# Altium footprint library ProtoStack_H750VBT.PcbLib: 87 footprints (part 3 of 6)
Each footprint in its own frame and in the unit in brackets; x right, y up, seen from the top. Pads: shape width x height; smd on the part's side, far side on the other; paste and mask are expansions set on the pad; w line width, h text height; cw(c..) or ccw(c..) is an arc to the next point about the centre after c.
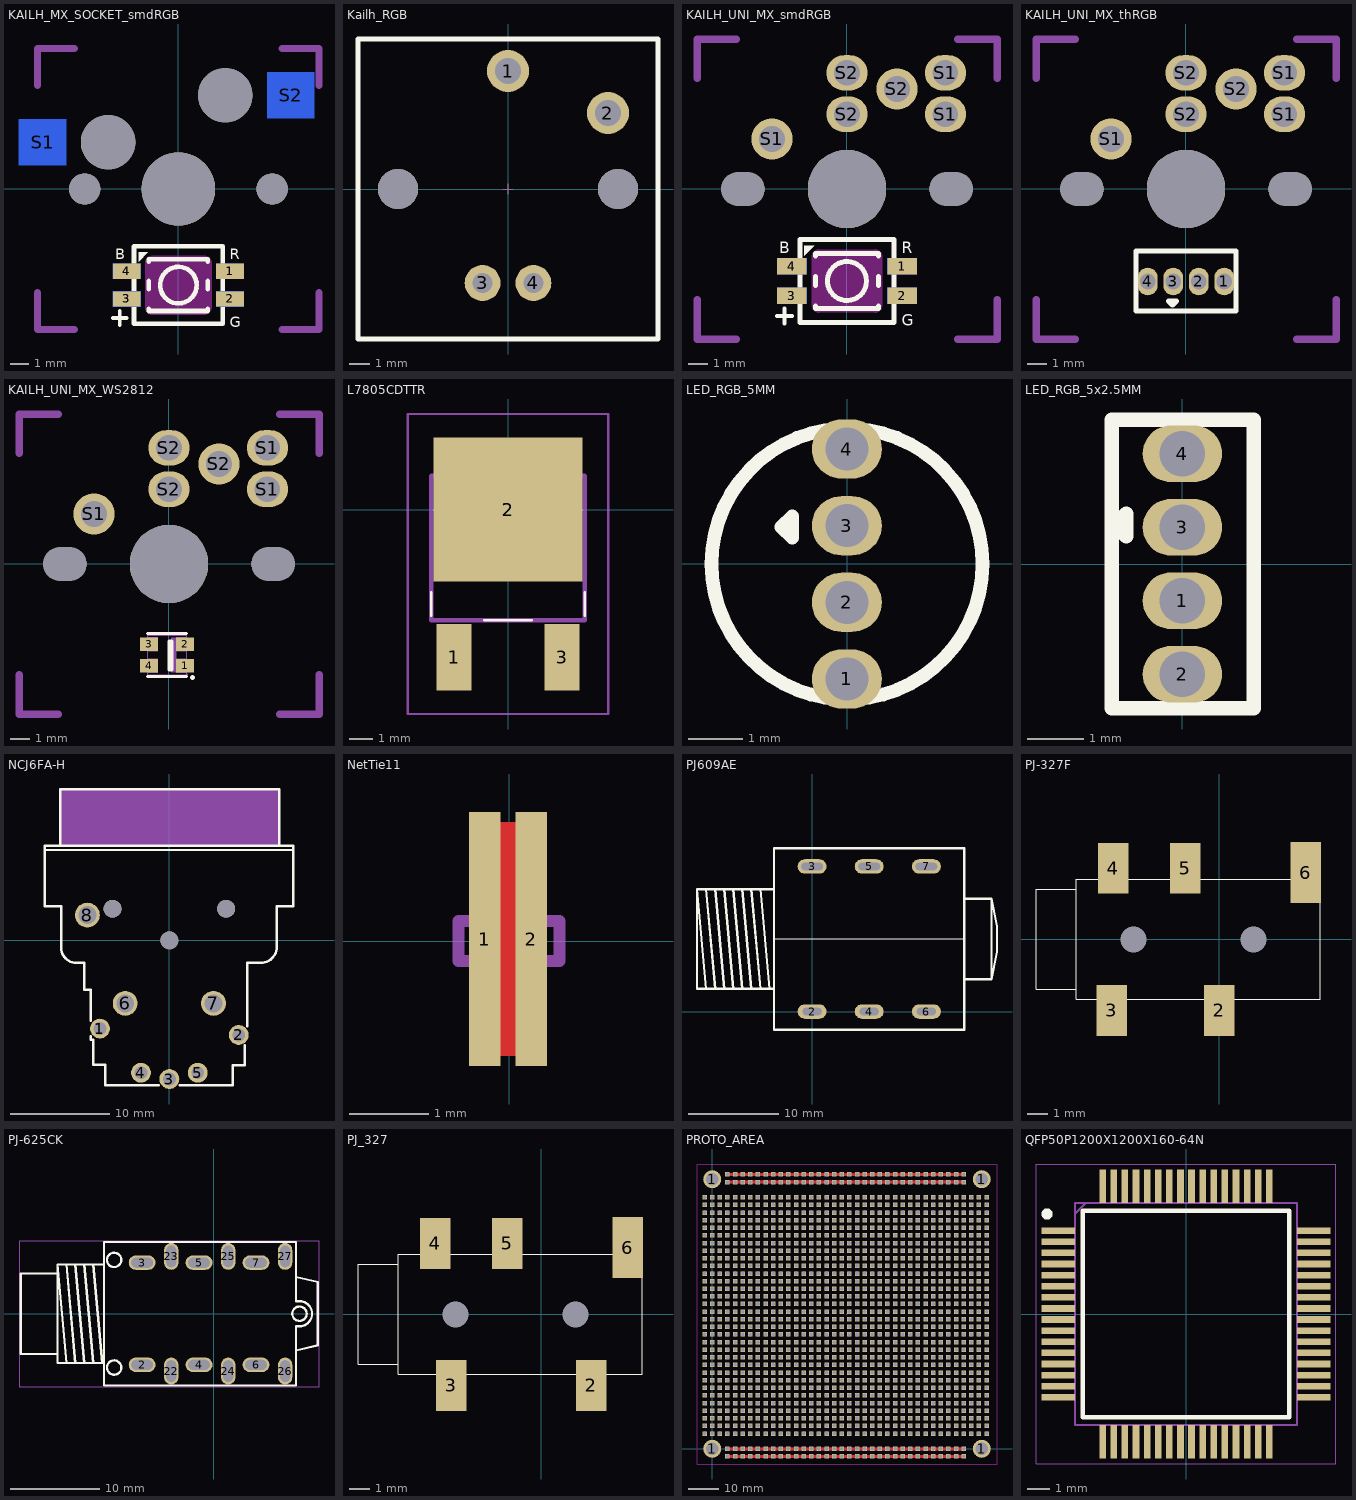
[diagram p2: the footprints below, top view; thin cyan lines are the x and y axes]

## KAILH_MX_SOCKET_smdRGB [mm]
pads (15):
  rect 1.5x0.82 smd far side paste+0 mask+0.051: 1(2.8,-4.457) 2(2.8,-5.957) 3(-2.8,-5.957) 4(-2.8,-4.457)
  rect 1.5x0.82 smd paste+0 mask+0.051: 1(2.8,-4.457) 2(2.8,-5.957) 3(-2.8,-5.957) 4(-2.8,-4.457)
  rect 2.55x2.5 smd far side paste+0 mask+0.102: S1(-7.36,2.54) S2(6.09,5.08)
  round 1.7 hole 1.7 unplated paste-2539.97: ""(-5.08,0) ""(5.08,0)
  round 2.95 hole 2.95 unplated paste-2539.97: ""(-3.81,2.54) ""(2.54,5.08)
  round 3.98 hole 3.98 unplated paste-2539.97: ""(0,0)
Top Overlay:
  circle w0.254: c0,-5.207 r0.992
  region: -2.159,-3.429 -1.651,-3.429 -2.159,-3.937
  lines w0.203: -3.556,-6.985 -2.794,-6.985 ; -3.175,-7.366 -3.175,-6.604
  lines w0.254: -1.6,-6.48 -1.6,-6.607 1.6,-6.607 1.6,-6.48 ; -1.6,-5.434 -1.6,-4.98 ; -1.6,-3.934 -1.6,-3.807 1.6,-3.807 1.6,-3.934 ; 1.6,-5.434 1.6,-4.98 ; -2.4,-7.308 2.4,-7.308 2.4,-3.108 -2.4,-3.108 -2.4,-7.308
  text "B" at -3.429,-3.81 h0.58
  text "G" at 2.794,-7.493 h0.58
  text "R" at 2.794,-3.81 h0.58
Bottom Overlay:
  region: -2.159,-3.429 -2.159,-3.937 -1.651,-3.429
  lines w0.15: 4.865,6.75 4.865,2.54 -0.865,2.54 ccw(c-0.865,0.865) -2.54,0.865 -6.135,0.865 -6.135,5.08 cw(c-4.46,5.08) -4.46,6.755 4.865,6.755
  lines w0.203: -3.556,-6.985 -2.794,-6.985 ; -3.175,-7.366 -3.175,-6.604
  lines w0.254: -2.4,-7.308 2.4,-7.308 2.4,-3.108 -2.4,-3.108 -2.4,-7.308
  text "B" at -2.794,-3.81 h0.58
  text "G" at -2.794,-3.81 h0.58
  text "R" at 3.429,-3.81 h0.58
Keep-Out Layer:
  board cut-out: 1.8,-6.407 1.8,-6.487 1.739,-6.634 1.627,-6.746 1.48,-6.807 1.4,-6.807 -1.4,-6.807 -1.401,-6.807 -1.402,-6.807 -1.404,-6.807 -1.406,-6.807 -1.485,-6.806 -1.63,-6.744 -1.74,-6.632 -1.8,-6.486 -1.8,-6.407 -1.8,-4.007 -1.8,-3.927 -1.739,-3.78 -1.627,-3.668 -1.48,-3.607 -1.4,-3.607 1.4,-3.607 1.48,-3.607 1.627,-3.668 1.739,-3.78 1.8,-3.927 1.8,-4.007
  board cut-out: -1.8,-6.407 -1.8,-6.487 -1.739,-6.634 -1.627,-6.746 -1.48,-6.807 -1.4,-6.807 1.4,-6.807 1.401,-6.807 1.402,-6.807 1.404,-6.807 1.406,-6.807 1.485,-6.806 1.63,-6.744 1.74,-6.632 1.8,-6.486 1.8,-6.407 1.8,-4.007 1.8,-3.927 1.739,-3.78 1.627,-3.668 1.48,-3.607 1.4,-3.607 -1.4,-3.607 -1.48,-3.607 -1.627,-3.668 -1.739,-3.78 -1.8,-3.927 -1.8,-4.007
Mechanical 15:
  lines w0.381: -7.62,-5.62 -7.62,-7.62 -5.62,-7.62 ; -7.62,5.62 -7.62,7.62 -5.62,7.62 ; 5.62,-7.62 7.62,-7.62 7.62,-5.62 ; 5.62,7.62 7.62,7.62 7.62,5.62
3D body "Kailh Hotswap MX v22.step": height 0.22, standoff -3, extent -7.895,0.749 6.625,6.699
3D body "asm_mx_asm_PLATE.stp": height 15.49, standoff -3.11, extent -7.79,-7.79 7.81,7.81
3D body "LED-3528-rgb.step": height 0.4, standoff -1.5, extent -1.75,-6.604 1.75,-3.804

## Kailh_RGB [mm]
pads (6):
  round 2.1 hole 1.3: 1(0,5.9) 2(5,3.8)
  round 1.8 hole 1: 3(-1.27,-4.699) 4(1.27,-4.699)
  round 2 hole 2 unplated: ""(-5.5,0) ""(5.5,0)
Top Overlay:
  lines w0.254: -7.5,-7.5 -7.5,7.5 7.5,7.5 7.5,-7.5 -7.5,-7.5
Mechanical 1:
  lines w0.051: -0.254,0 0,0 ; 0,-0.254 0,0 ; 0,0.254 0,0 ; 0.254,0 0,0
3D body "Kailh Choc Low Profile Switch.step": height 8, standoff -3, extent -7.5,-7.5 7.5,7.5

## KAILH_UNI_MX_smdRGB [mm] "Universal footprint for low-profile and regular switches, direct solder. Kailh RGB Black also supported without led"
pads (17):
  rect 1.5x0.82 smd far side paste+0 mask+0.051: 1(2.8,-3.924) 2(2.8,-5.424) 3(-2.8,-5.424) 4(-2.8,-3.924)
  rect 1.5x0.82 smd paste+0 mask+0.051: 1(2.8,-3.924) 2(2.8,-5.424) 3(-2.8,-5.424) 4(-2.8,-3.924)
  round 2.1 hole 1.3: S1(-3.81,2.54) S2(2.54,5.08)
  oval 2.1x1.8 hole 1.3: S1(5,3.8) S1(5,5.9) S2(0,3.8) S2(0,5.9)
  oval 2.2x1.7 hole 1.7 slot 2.2 at 0 deg unplated paste-2539.97: ""(-5.29,0) ""(5.29,0)
  round 3.98 hole 3.98 unplated paste-2539.97: ""(0,0)
Top Overlay:
  circle w0.254: c0,-4.674 r0.992
  region: -2.159,-2.896 -1.651,-2.896 -2.159,-3.404
  lines w0.203: -3.556,-6.452 -2.794,-6.452 ; -3.175,-6.833 -3.175,-6.071
  lines w0.254: -1.6,-5.947 -1.6,-6.074 1.6,-6.074 1.6,-5.947 ; -1.6,-4.9 -1.6,-4.447 ; -1.6,-3.4 -1.6,-3.274 1.6,-3.274 1.6,-3.4 ; 1.6,-4.9 1.6,-4.447 ; -2.4,-6.774 2.4,-6.774 2.4,-2.575 -2.4,-2.575 -2.4,-6.774
  text "B" at -3.429,-3.277 h0.58
  text "G" at 2.794,-6.96 h0.58
  text "R" at 2.794,-3.277 h0.58
Bottom Overlay:
  region: -2.159,-2.896 -2.159,-3.404 -1.651,-2.896
  lines w0.203: -3.556,-6.452 -2.794,-6.452 ; -3.175,-6.833 -3.175,-6.071
  lines w0.254: -2.4,-6.774 2.4,-6.774 2.4,-2.575 -2.4,-2.575 -2.4,-6.774
  text "B" at -2.794,-3.277 h0.58
  text "G" at -2.794,-3.277 h0.58
  text "R" at 3.429,-3.277 h0.58
Keep-Out Layer:
  board cut-out: 1.8,-5.874 1.8,-5.953 1.739,-6.1 1.627,-6.213 1.48,-6.274 1.4,-6.274 -1.4,-6.274 -1.401,-6.274 -1.402,-6.274 -1.404,-6.274 -1.406,-6.274 -1.485,-6.273 -1.63,-6.211 -1.74,-6.098 -1.8,-5.953 -1.8,-5.874 -1.8,-3.474 -1.8,-3.394 -1.739,-3.247 -1.627,-3.134 -1.48,-3.074 -1.4,-3.074 1.4,-3.074 1.4,-3.073 1.48,-3.073 1.627,-3.134 1.739,-3.247 1.8,-3.394 1.8,-3.473
  board cut-out: -1.8,-5.874 -1.8,-5.953 -1.739,-6.1 -1.627,-6.213 -1.48,-6.274 -1.4,-6.274 1.4,-6.274 1.401,-6.274 1.402,-6.274 1.404,-6.274 1.406,-6.274 1.485,-6.273 1.63,-6.211 1.74,-6.098 1.8,-5.953 1.8,-5.874 1.8,-3.474 1.8,-3.394 1.739,-3.247 1.627,-3.134 1.48,-3.074 1.4,-3.074 -1.4,-3.074 -1.4,-3.073 -1.48,-3.073 -1.627,-3.134 -1.739,-3.247 -1.8,-3.394 -1.8,-3.473
Mechanical 15:
  lines w0.381: -7.62,-5.62 -7.62,-7.62 -5.62,-7.62 ; -7.62,5.62 -7.62,7.62 -5.62,7.62 ; 5.62,-7.62 7.62,-7.62 7.62,-5.62 ; 5.62,7.62 7.62,7.62 7.62,5.62
3D body "LED-3528-rgb.step": height 0.4, standoff -1.5, extent -1.75,-6.071 1.75,-3.271
3D body "Kailh LP Choc Burnt Orange.STEP": height 8.2, standoff -2.9, extent -7.5,-7.5 7.5,7.5

## KAILH_UNI_MX_thRGB [mm] "Universal footprint for LP-pinout and regular switches, direct solder. LP switches willnot fit with square LED Kailh RGB Black also supported without led"
pads (13):
  oval 1x1.4 hole 0.8: 1(1.943,-4.699) 2(0.648,-4.699) 3(-0.648,-4.699) 4(-1.943,-4.699)
  round 2.1 hole 1.3: S1(-3.81,2.54) S2(2.54,5.08)
  oval 2.1x1.8 hole 1.3: S1(5,3.8) S1(5,5.9) S2(0,3.8) S2(0,5.9)
  oval 2.2x1.7 hole 1.7 slot 2.2 at 0 deg unplated paste-2539.97: ""(-5.29,0) ""(5.29,0)
  round 3.98 hole 3.98 unplated paste-2539.97: ""(0,0)
Top Overlay:
  lines w0.254: -2.54,-6.198 -2.54,-3.15 2.54,-3.15 2.54,-6.198 -2.54,-6.198 ; -0.886,-5.69 -0.686,-5.889 -0.486,-5.69 -0.886,-5.69
Mechanical 15:
  lines w0.381: -7.62,-5.62 -7.62,-7.62 -5.62,-7.62 ; -7.62,5.62 -7.62,7.62 -5.62,7.62 ; 5.62,-7.62 7.62,-7.62 7.62,-5.62 ; 5.62,7.62 7.62,7.62 7.62,5.62
3D body "asm_mx_asm_PLATE.stp": height 15.49, standoff -3.11, extent -7.79,-7.79 7.81,7.81

## KAILH_UNI_MX_WS2812 [mm] "Universal footprint for low-profile and regular switches, direct solder. Kailh RGB Black also supported without led, LED is ws2812 in 2020 package"
pads (13):
  rect 0.9x0.7 smd: 1(0.815,-5.174) 2(0.815,-4.074) 3(-1.015,-4.074) 4(-1.015,-5.174)
  round 2.1 hole 1.3: S1(-3.81,2.54) S2(2.54,5.08)
  oval 2.1x1.8 hole 1.3: S1(5,3.8) S1(5,5.9) S2(0,3.8) S2(0,5.9)
  oval 2.2x1.7 hole 1.7 slot 2.2 at 0 deg unplated paste-2539.97: ""(-5.29,0) ""(5.29,0)
  round 3.98 hole 3.98 unplated paste-2539.97: ""(0,0)
Top Overlay:
  lines w0.152: -1.1,-5.724 0.9,-5.724 ; -1.1,-3.524 0.9,-3.524 ; 0,-5.374 0,-3.974 0,-3.924 0.15,-3.924 0.15,-5.374 0,-5.374
  lines w0.254: 1.2,-5.774 1.2,-5.762
Mechanical 6:
  region: -1.025,-3.874 -1.025,-3.924 -1.075,-3.924 -1.075,-4.224 -1.025,-4.224 -1.025,-4.274 -1.175,-4.274 -1.175,-4.224 -1.125,-4.224 -1.125,-3.924 -1.175,-3.924 -1.175,-3.874
  region: -0.65,-4.274 -0.65,-3.874 -0.8,-3.874 -0.85,-3.874 -0.9,-3.924 -0.9,-4.224 -0.85,-4.274 -0.75,-4.274 -0.75,-4.224 -0.85,-4.224 -0.85,-3.924 -0.7,-3.924 -0.7,-4.274
  region: 1.075,-5.324 1.075,-4.924 0.925,-4.924 0.875,-4.924 0.825,-4.974 0.825,-5.274 0.875,-5.324 0.975,-5.324 0.975,-5.274 0.875,-5.274 0.875,-4.974 1.025,-4.974 1.025,-5.324
  region: 0.7,-5.324 0.75,-5.274 0.75,-4.974 0.7,-4.924 0.5,-4.924 0.45,-4.974 0.45,-5.274 0.5,-5.324 0.6,-5.324 0.6,-5.274 0.5,-5.274 0.5,-4.974 0.7,-4.974 0.7,-5.274 0.65,-5.274 0.65,-5.324
  region: -1.05,-5.374 -1.05,-5.074 -1.2,-5.074 -1.2,-4.974 -1.25,-4.974 -1.25,-5.074 -1.35,-5.074 -1.35,-5.124 -1.25,-5.124 -1.25,-5.274 -1.2,-5.274 -1.2,-5.124 -1.1,-5.124 -1.1,-5.374
  region: 0.125,-5.504 0.125,-3.744 0.375,-3.744 0.375,-5.504
  region: -0.66,-5.224 -0.9,-5.224 -0.9,-5.174 -0.66,-5.174
  region: -0.755,-5.079 -0.755,-5.319 -0.805,-5.319 -0.805,-5.079
  region: 1.08,-3.959 0.84,-3.959 0.84,-3.909 1.08,-3.909
  region: 0.72,-4.244 0.48,-4.244 0.48,-4.064 0.69,-4.064 0.69,-3.954 0.48,-3.954 0.48,-3.904 0.72,-3.904 0.73,-3.904 0.73,-3.914 0.73,-4.104 0.51,-4.104 0.51,-4.204 0.73,-4.204 0.73,-4.244
Mechanical 15:
  region: 0.84,-5.624 0.84,-5.648 0.875,-5.683 0.925,-5.683 0.96,-5.648 0.96,-5.624 0.96,-5.599 0.925,-5.565 0.875,-5.565 0.84,-5.599
  region: 0.9,-4.824 0.9,-5.524 0.375,-5.524 0.375,-4.824
  region: 0.9,-3.724 0.9,-4.424 0.375,-4.424 0.375,-3.724
  region: -0.575,-3.724 -0.575,-4.424 -1.1,-4.424 -1.1,-3.724
  region: -0.575,-4.824 -0.575,-5.524 -1.1,-5.524 -1.1,-4.824
  lines w0.051: -1.1,-5.624 -1.1,-3.624 0.9,-3.624 0.9,-5.624 -1.1,-5.624
  lines w0.381: -7.62,-5.62 -7.62,-7.62 -5.62,-7.62 ; -7.62,5.62 -7.62,7.62 -5.62,7.62 ; 5.62,-7.62 7.62,-7.62 7.62,-5.62 ; 5.62,7.62 7.62,7.62 7.62,5.62
3D body "Kailh LP Choc Burnt Orange.STEP": height 8.2, standoff -2.9, extent -7.5,-7.5 7.5,7.5
3D body "WS2812-2020.STEP": height 0.86, standoff 0, extent -1.207,-5.641 0.993,-3.641

## L7805CDTTR [mm]
pads (3):
  rect 1.5x2.8 smd: 1(-2.286,-6.25) 3(2.286,-6.25)
  rect 6.3x6.1 smd: 2(0,0)
Top Overlay:
  lines w0.1: -3.25,-4.5 -3.25,-3.5 ; -1,-4.676 1,-4.676 ; 3.25,-4.5 3.25,-3.5
Mechanical 13:
  lines w0.2: -3.25,-4.676 3.25,-4.676 3.25,1.424 -3.25,1.424 -3.25,-4.676
Mechanical 15:
  lines w0.1: -4.25,-8.65 4.25,-8.65 4.25,4.05 -4.25,4.05 -4.25,-8.65
3D body "L7805CDT-TR.stp": height 2.63, standoff 0.01, extent -3.3,-7.383 3.3,2.78

## LED_RGB_5MM [mm]
pads (4):
  oval 1.3x1.1 hole 0.8: 1(-0.003,-2.135) 2(-0.003,-0.712) 3(-0.003,0.71) 4(-0.003,2.132)
Top Overlay:
  circle w0.254: c0,0 r2.514
  lines w0.254: -1.216,0.686 -1.016,0.886 -1.016,0.486 -1.216,0.686

## LED_RGB_5x2.5MM [mm]
pads (4):
  oval 1.4x1 hole 0.8: 1(0,-0.648) 2(0,-1.943) 3(0,0.648) 4(0,1.943)
Top Overlay:
  lines w0.254: -1.245,-2.54 -1.245,2.54 1.255,2.54 1.255,-2.54 -1.245,-2.54 ; -1.19,0.686 -0.991,0.886 -0.991,0.486 -1.19,0.686
3D body "LED cuadrado.stp": height 7.24, standoff -17.76, extent -1.006,-2.504 0.994,2.496

## NCJ6FA-H [mm] "Neutrik NCJ6FA-H"
pads (11):
  round 2 hole 1.3 paste-2539.97 mask+0.051: 1(-6.985,-8.89) 2(6.985,-9.525) 3(0,-13.97) 4(-2.858,-13.335) 5(2.858,-13.335)
  round 2.5 hole 1.8 paste-2539.97 mask+0.051: 6(-4.445,-6.35) 7(4.445,-6.35) 8(-8.255,2.54)
  round 1.8 hole 1.8 unplated paste-2539.97: ""(-5.715,3.175) ""(0,0) ""(5.715,3.175)
Top Overlay:
  lines w0.203: -12.446,9.105 12.446,9.105
  lines w0.254: -7.935,-9.672 -7.935,-10.015 -7.685,-10.015 -7.685,-12.515 -6.435,-12.515 -6.435,-14.615 -1.048,-14.615 ; -7.935,-8.108 -7.935,-4.965 -8.585,-4.965 -8.585,-2.265 -9.385,-2.265 cw(c-9.385,-0.765) -10.885,-0.765 -10.885,3.435 -12.535,3.435 -12.535,9.525 -11,9.525 ; 1.048,-14.615 6.365,-14.615 6.365,-12.565 7.615,-12.565 7.615,-10.582 ; 7.865,-8.665 7.865,-2.265 9.215,-2.265 ccw(c9.215,-0.665) 10.815,-0.665 10.815,3.435 12.465,3.435 12.465,9.535 11.049,9.535 ; 11,9.525 -11,9.525 ; 11.049,9.525 11.049,15.225 -11,15.225 -11,9.525
Mechanical 15:
  circle w0.8: c-5.715,3.175 r0.4
  circle w0.8: c0,0 r0.4
  circle w0.8: c5.715,3.175 r0.4
  region: 11.065,9.535 11.065,15.235 -10.985,15.235 -10.985,9.535
  lines w0.254: -10.567,12.43 -10.542,12.405
3D body "3D Model NCJ6FA-H.stp": height 29.41, standoff -3.06, extent -12.53,-15.069 12.462,17.144

## NetTie11 [mm]
pads (2):
  rect 0.4x3.2 smd: 1(-0.305,0.025) 2(0.279,0.025)
Top Layer:
  rectangle: -0.127,-1.448 0.102,1.499
  lines w0.254: -0.305,0.025 0.279,0.025
Mechanical 8:
  lines w0.152: -0.635,-0.254 0.635,-0.254 0.635,0.254 -0.381,0.254 -0.635,0.254 -0.635,-0.254

## PJ609AE [mm] "HOOYA"
pads (6):
  oval 3.2x1.6 hole 0.8 slot 2.1 at 0 deg paste-2539.97 mask+0.051: 2(0,0) 4(6.3,0) 6(12.6,0)
  oval 3.2x1.6 hole 0.8 slot 2.4 at 0 deg paste-2539.97 mask+0.051: 3(0,16) 5(6.3,16) 7(12.6,16)
Top Overlay:
  lines w0.127: -4.2,8 16.8,8
  lines w0.254: -11.7,2.5 -12.7,13.5 ; -11.7,13.5 -10.7,2.5 ; -10.7,13.5 -9.7,2.5 ; -9.7,13.5 -8.7,2.5 ; -8.7,13.5 -7.7,2.5 ; -7.7,13.5 -6.7,2.5 ; -6.7,13.5 -5.7,2.5 ; -5.7,13.5 -4.7,2.5 ; -4.2,2.5 -12.7,2.5 -12.7,13.5 ; -4.2,13.5 -12.7,13.5 ; 16.8,3.55 19.8,3.55 ; 16.8,12.45 19.8,12.45 ; 19.8,3.55 19.8,12.45 ; 19.8,3.55 20.4,6.6 20.4,9.4 19.8,12.45 ; -4.2,-2 16.8,-2 16.8,18 -4.2,18 -4.2,-2
3D body "MZT-223 Jack Socket - Stereo chassis jack, O 6.stp": height 16.2, standoff -3.68, extent -12.158,-1.404 21.201,17.094

## PJ-327F [mil]
pads (7):
  rect 60x100 smd mask+3: 2(0,-140) 3(-211,-140) 4(-208.66,139.76) 5(-66.93,139.76)
  rect 60x120 smd mask+3: 6(170,131.34)
  round 0 hole 51 unplated mask+3: 257(-168.22,0) 258(68,0)
Top Overlay:
  lines w0.5: -281.5,-98.43 -360.24,-98.43 -360.24,98.43 -281.5,98.43 ; -281.5,-118.11 -281.5,118.11 198.82,118.11 198.82,-118.11 -281.5,-118.11
Mechanical 1:
  circle w0.5: c68,0 r23.62
  circle w0.5: c-168.22,0 r23.62
3D body "Jack-audio-3.5mm(PJ-327F-5A).step": height 200.79, standoff -15.75, extent -363.74,-186.01 187.44,188.01

## PJ-625CK [mm] "HOOYA PJ-625CK"
pads (12):
  oval 3x1.6 hole 1.1 slot 2.4 at 0 deg: 2(-7.974,-5.7) 3(-7.974,5.7) 4(-1.624,-5.7) 5(-1.624,5.7) 6(4.726,-5.7) 7(4.726,5.7)
  oval 1.6x3 hole 1.1 slot 2.4 at 90 deg: 22(-4.725,-6.4) 23(-4.725,6.4) 24(1.625,-6.4) 25(1.625,6.4) 26(7.975,-6.4) 27(7.975,6.4)
Top Overlay:
  circle w0.254: c9.575,0 r0.8
  circle w0.254: c-11.1,-6 r0.8
  circle w0.254: c-11.1,6 r0.8
  lines w0.254: -17.425,-4.5 -21.525,-4.5 -21.525,4.5 -17.425,4.5 ; -16.425,-5.5 -17.425,5.5 ; -16.425,5.5 -15.425,-5.5 ; -15.425,5.5 -14.425,-5.5 ; -14.425,5.5 -13.425,-5.5 ; -13.425,5.5 -12.425,-5.5 ; -12.225,-5.5 -17.425,-5.5 -17.425,5.5 ; -12.225,5.5 -17.425,5.5 ; 9.175,-4.1 11.625,-3.528 11.625,3.528 9.175,4.1 ; -12.225,-8 -12.225,8 9.175,8 9.175,1.4 9.575,1.4 cw(c9.575,0) 9.575,-1.4 9.175,-1.4 9.175,-8 -12.225,-8
Mechanical 15:
  region: -21.592,-8.127 -21.592,-8.152 -21.627,-8.187 -21.677,-8.187 -21.712,-8.152 -21.712,-8.127 -21.712,-8.102 -21.677,-8.067 -21.627,-8.067 -21.592,-8.102
  region: -5.165,-7.05 -5.165,-5.75 -4.285,-5.75 -4.285,-7.05
  region: -7.324,-6.14 -8.624,-6.14 -8.624,-5.26 -7.324,-5.26
  region: -7.324,5.26 -8.624,5.26 -8.624,6.14 -7.324,6.14
  region: -0.974,-6.14 -2.274,-6.14 -2.274,-5.26 -0.974,-5.26
  region: -0.974,5.26 -2.274,5.26 -2.274,6.14 -0.974,6.14
  region: 5.376,-6.14 4.076,-6.14 4.076,-5.26 5.376,-5.26
  region: 5.376,5.26 4.076,5.26 4.076,6.14 5.376,6.14
  region: -5.165,5.75 -5.165,7.05 -4.285,7.05 -4.285,5.75
  region: 1.185,-7.05 1.185,-5.75 2.065,-5.75 2.065,-7.05
  region: 1.185,5.75 1.185,7.05 2.065,7.05 2.065,5.75
  region: 7.535,-7.05 7.535,-5.75 8.415,-5.75 8.415,-7.05
  region: 7.535,5.75 7.535,7.05 8.415,7.05 8.415,5.75
  lines w0.051: -21.652,-8.127 11.752,-8.127 11.752,8.127 -21.652,8.127 -21.652,-8.127
3D body "HOOYA PJ-625CK.stp": height 32, standoff 0, extent -21.396,-7.931 11.754,8.069

## PJ_327 [mil]
pads (7):
  rect 60x100 smd mask+3: 2(98.43,-139.76) 3(-177.17,-139.76) 4(-208.66,139.76) 5(-66.93,139.76)
  rect 60x120 smd mask+3: 6(170,131.34)
  round 0 hole 51 unplated mask+3: 257(-168.22,0) 258(68,0)
Top Overlay:
  lines w0.5: -281.5,-98.43 -360.24,-98.43 -360.24,98.43 -281.5,98.43 ; -281.5,-118.11 -281.5,118.11 198.82,118.11 198.82,-118.11 -281.5,-118.11
Mechanical 1:
  circle w0.5: c68,0 r23.62
  circle w0.5: c-168.22,0 r23.62
3D body "Jack-audio-3.5mm(PJ-327F-5A).step": height 200.79, standoff -15.75, extent -363.74,-186.01 187.44,188.01

## PROTO_AREA [mm]
pads (1348):
  round 6 hole 4.2: 1(0,0) 1(0,89.84) 1(89.84,0) 1(89.84,89.84)
  rect 1.5x1.5 hole 1.2: 5(-2.54,5.08) 5(-2.54,7.62) 5(-2.54,10.16) 5(-2.54,12.7) 5(-2.54,15.24) 5(-2.54,17.78) 5(-2.54,20.32) 5(-2.54,22.86) 5(-2.54,25.4) 5(-2.54,27.94) 5(-2.54,30.48) 5(-2.54,33.02) 5(-2.54,35.56) 5(-2.54,38.1) 5(-2.54,40.64) 5(-2.54,43.18) 5(-2.54,45.72) 5(-2.54,48.26) 5(-2.54,50.8) 5(-2.54,53.34) 5(-2.54,55.88) 5(-2.54,58.42) 5(-2.54,60.96) 5(-2.54,63.5) 5(-2.54,66.04) 5(-2.54,68.58) 5(-2.54,71.12) 5(-2.54,73.66) 5(-2.54,76.2) 5(-2.54,78.74) 5(-2.54,81.28) 5(-2.54,83.82) 5(0,5.08) 5(0,7.62) 5(0,10.16) 5(0,12.7) 5(0,15.24) 5(0,17.78) 5(0,20.32) 5(0,22.86) 5(0,25.4) 5(0,27.94) 5(0,30.48) 5(0,33.02) 5(0,35.56) 5(0,38.1) 5(0,40.64) 5(0,43.18) 5(0,45.72) 5(0,48.26) 5(0,50.8) 5(0,53.34) 5(0,55.88) 5(0,58.42) 5(0,60.96) 5(0,63.5) 5(0,66.04) 5(0,68.58) 5(0,71.12) 5(0,73.66) 5(0,76.2) 5(0,78.74) 5(0,81.28) 5(0,83.82) 5(2.54,5.08) 5(2.54,7.62) 5(2.54,10.16) 5(2.54,12.7) 5(2.54,15.24) 5(2.54,17.78) 5(2.54,20.32) 5(2.54,22.86) 5(2.54,25.4) 5(2.54,27.94) 5(2.54,30.48) 5(2.54,33.02) 5(2.54,35.56) 5(2.54,38.1) 5(2.54,40.64) 5(2.54,43.18) 5(2.54,45.72) 5(2.54,48.26) 5(2.54,50.8) 5(2.54,53.34) 5(2.54,55.88) 5(2.54,58.42) 5(2.54,60.96) 5(2.54,63.5) 5(2.54,66.04) 5(2.54,68.58) 5(2.54,71.12) 5(2.54,73.66) 5(2.54,76.2) 5(2.54,78.74) 5(2.54,81.28) 5(2.54,83.82) 5(5.08,-2.54) 5(5.08,0) 5(5.08,5.08) 5(5.08,7.62) 5(5.08,10.16) 5(5.08,12.7) 5(5.08,15.24) 5(5.08,17.78) 5(5.08,20.32) 5(5.08,22.86) 5(5.08,25.4) 5(5.08,27.94) 5(5.08,30.48) 5(5.08,33.02) 5(5.08,35.56) 5(5.08,38.1) 5(5.08,40.64) 5(5.08,43.18) 5(5.08,45.72) 5(5.08,48.26) 5(5.08,50.8) 5(5.08,53.34) 5(5.08,55.88) 5(5.08,58.42) 5(5.08,60.96) 5(5.08,63.5) 5(5.08,66.04) 5(5.08,68.58) 5(5.08,71.12) 5(5.08,73.66) 5(5.08,76.2) 5(5.08,78.74) 5(5.08,81.28) 5(5.08,83.82) 5(5.08,88.9) 5(5.08,91.44) 5(7.62,-2.54) 5(7.62,0) 5(7.62,5.08) 5(7.62,7.62) 5(7.62,10.16) 5(7.62,12.7) 5(7.62,15.24) 5(7.62,17.78) 5(7.62,20.32) 5(7.62,22.86) 5(7.62,25.4) 5(7.62,27.94) 5(7.62,30.48) 5(7.62,33.02) 5(7.62,35.56) 5(7.62,38.1) 5(7.62,40.64) 5(7.62,43.18) 5(7.62,45.72) 5(7.62,48.26) 5(7.62,50.8) 5(7.62,53.34) 5(7.62,55.88) 5(7.62,58.42) 5(7.62,60.96) 5(7.62,63.5) 5(7.62,66.04) 5(7.62,68.58) 5(7.62,71.12) 5(7.62,73.66) 5(7.62,76.2) 5(7.62,78.74) 5(7.62,81.28) 5(7.62,83.82) 5(7.62,88.9) 5(7.62,91.44) 5(10.16,-2.54) 5(10.16,0) 5(10.16,5.08) 5(10.16,7.62) 5(10.16,10.16) 5(10.16,12.7) 5(10.16,15.24) 5(10.16,17.78) 5(10.16,20.32) 5(10.16,22.86) 5(10.16,25.4) 5(10.16,27.94) 5(10.16,30.48) 5(10.16,33.02) 5(10.16,35.56) 5(10.16,38.1) 5(10.16,40.64) 5(10.16,43.18) 5(10.16,45.72) 5(10.16,48.26) 5(10.16,50.8) 5(10.16,53.34) 5(10.16,55.88) 5(10.16,58.42) 5(10.16,60.96) 5(10.16,63.5) 5(10.16,66.04) 5(10.16,68.58) 5(10.16,71.12) 5(10.16,73.66) 5(10.16,76.2) 5(10.16,78.74) 5(10.16,81.28) 5(10.16,83.82) 5(10.16,88.9) 5(10.16,91.44) 5(12.7,-2.54) 5(12.7,0) 5(12.7,5.08) 5(12.7,7.62) 5(12.7,10.16) 5(12.7,12.7) 5(12.7,15.24) 5(12.7,17.78) 5(12.7,20.32) 5(12.7,22.86) 5(12.7,25.4) 5(12.7,27.94) 5(12.7,30.48) 5(12.7,33.02) 5(12.7,35.56) 5(12.7,38.1) 5(12.7,40.64) 5(12.7,43.18) 5(12.7,45.72) 5(12.7,48.26) 5(12.7,50.8) 5(12.7,53.34) 5(12.7,55.88) 5(12.7,58.42) 5(12.7,60.96) 5(12.7,63.5) 5(12.7,66.04) 5(12.7,68.58) 5(12.7,71.12) 5(12.7,73.66) 5(12.7,76.2) 5(12.7,78.74) 5(12.7,81.28) 5(12.7,83.82) 5(12.7,88.9) 5(12.7,91.44) 5(15.24,-2.54) 5(15.24,0) 5(15.24,5.08) 5(15.24,7.62) 5(15.24,10.16) 5(15.24,12.7) 5(15.24,15.24) 5(15.24,17.78) 5(15.24,20.32) 5(15.24,22.86) 5(15.24,25.4) 5(15.24,27.94) 5(15.24,30.48) 5(15.24,33.02) 5(15.24,35.56) 5(15.24,38.1) 5(15.24,40.64) 5(15.24,43.18) 5(15.24,45.72) 5(15.24,48.26) 5(15.24,50.8) 5(15.24,53.34) 5(15.24,55.88) 5(15.24,58.42) 5(15.24,60.96) 5(15.24,63.5) 5(15.24,66.04) 5(15.24,68.58) 5(15.24,71.12) 5(15.24,73.66) 5(15.24,76.2) 5(15.24,78.74) 5(15.24,81.28) 5(15.24,83.82) 5(15.24,88.9) 5(15.24,91.44) 5(17.78,-2.54) 5(17.78,0) 5(17.78,5.08) 5(17.78,7.62) 5(17.78,10.16) 5(17.78,12.7) 5(17.78,15.24) 5(17.78,17.78) 5(17.78,20.32) 5(17.78,22.86) 5(17.78,25.4) 5(17.78,27.94) 5(17.78,30.48) 5(17.78,33.02) 5(17.78,35.56) 5(17.78,38.1) 5(17.78,40.64) 5(17.78,43.18) 5(17.78,45.72) 5(17.78,48.26) 5(17.78,50.8) 5(17.78,53.34) 5(17.78,55.88) 5(17.78,58.42) 5(17.78,60.96) 5(17.78,63.5) 5(17.78,66.04) 5(17.78,68.58) 5(17.78,71.12) 5(17.78,73.66) 5(17.78,76.2) 5(17.78,78.74) 5(17.78,81.28) 5(17.78,83.82) 5(17.78,88.9) 5(17.78,91.44) 5(20.32,-2.54) 5(20.32,0) 5(20.32,5.08) 5(20.32,7.62) 5(20.32,10.16) 5(20.32,12.7) 5(20.32,15.24) 5(20.32,17.78) 5(20.32,20.32) 5(20.32,22.86) 5(20.32,25.4) 5(20.32,27.94) 5(20.32,30.48) 5(20.32,33.02) 5(20.32,35.56) 5(20.32,38.1) 5(20.32,40.64) 5(20.32,43.18) 5(20.32,45.72) 5(20.32,48.26) 5(20.32,50.8) 5(20.32,53.34) 5(20.32,55.88) 5(20.32,58.42) 5(20.32,60.96) 5(20.32,63.5) 5(20.32,66.04) 5(20.32,68.58) 5(20.32,71.12) 5(20.32,73.66) 5(20.32,76.2) 5(20.32,78.74) 5(20.32,81.28) 5(20.32,83.82) 5(20.32,88.9) 5(20.32,91.44) 5(22.86,-2.54) 5(22.86,0) 5(22.86,5.08) 5(22.86,7.62) 5(22.86,10.16) 5(22.86,12.7) 5(22.86,15.24) 5(22.86,17.78) 5(22.86,20.32) 5(22.86,22.86) 5(22.86,25.4) 5(22.86,27.94) 5(22.86,30.48) 5(22.86,33.02) 5(22.86,35.56) 5(22.86,38.1) 5(22.86,40.64) 5(22.86,43.18) 5(22.86,45.72) 5(22.86,48.26) 5(22.86,50.8) 5(22.86,53.34) 5(22.86,55.88) 5(22.86,58.42) 5(22.86,60.96) 5(22.86,63.5) 5(22.86,66.04) 5(22.86,68.58) 5(22.86,71.12) 5(22.86,73.66) 5(22.86,76.2) 5(22.86,78.74) 5(22.86,81.28) 5(22.86,83.82) 5(22.86,88.9) 5(22.86,91.44) 5(25.4,-2.54) 5(25.4,0) 5(25.4,5.08) 5(25.4,7.62) 5(25.4,10.16) 5(25.4,12.7) 5(25.4,15.24) 5(25.4,17.78) 5(25.4,20.32) 5(25.4,22.86) 5(25.4,25.4) 5(25.4,27.94) 5(25.4,30.48) 5(25.4,33.02) 5(25.4,35.56) 5(25.4,38.1) 5(25.4,40.64) 5(25.4,43.18) 5(25.4,45.72) 5(25.4,48.26) 5(25.4,50.8) 5(25.4,53.34) 5(25.4,55.88) 5(25.4,58.42) 5(25.4,60.96) 5(25.4,63.5) 5(25.4,66.04) 5(25.4,68.58) 5(25.4,71.12) 5(25.4,73.66) 5(25.4,76.2) 5(25.4,78.74) 5(25.4,81.28) 5(25.4,83.82) 5(25.4,88.9) 5(25.4,91.44) 5(27.94,-2.54) 5(27.94,0) 5(27.94,5.08) 5(27.94,7.62) 5(27.94,10.16) 5(27.94,12.7) 5(27.94,15.24) 5(27.94,17.78) 5(27.94,20.32) 5(27.94,22.86) 5(27.94,25.4) 5(27.94,27.94) 5(27.94,30.48) 5(27.94,33.02) 5(27.94,35.56) 5(27.94,38.1) 5(27.94,40.64) 5(27.94,43.18) 5(27.94,45.72) 5(27.94,48.26) 5(27.94,50.8) 5(27.94,53.34) 5(27.94,55.88) 5(27.94,58.42) 5(27.94,60.96) 5(27.94,63.5) 5(27.94,66.04) 5(27.94,68.58) 5(27.94,71.12) 5(27.94,73.66) 5(27.94,76.2) 5(27.94,78.74) 5(27.94,81.28) 5(27.94,83.82) 5(27.94,88.9) 5(27.94,91.44) 5(30.48,-2.54) 5(30.48,0) 5(30.48,5.08) 5(30.48,7.62) 5(30.48,10.16) 5(30.48,12.7) 5(30.48,15.24) 5(30.48,17.78) 5(30.48,20.32) 5(30.48,22.86) 5(30.48,25.4) 5(30.48,27.94) 5(30.48,30.48) 5(30.48,33.02) 5(30.48,35.56) 5(30.48,38.1) 5(30.48,40.64) 5(30.48,43.18) 5(30.48,45.72) 5(30.48,48.26) 5(30.48,50.8) 5(30.48,53.34) 5(30.48,55.88) 5(30.48,58.42) 5(30.48,60.96) 5(30.48,63.5) 5(30.48,66.04) 5(30.48,68.58) 5(30.48,71.12) 5(30.48,73.66) 5(30.48,76.2) 5(30.48,78.74) 5(30.48,81.28) 5(30.48,83.82) 5(30.48,88.9) 5(30.48,91.44) 5(33.02,-2.54) 5(33.02,0) 5(33.02,5.08) 5(33.02,7.62) 5(33.02,10.16) 5(33.02,12.7) 5(33.02,15.24) 5(33.02,17.78) 5(33.02,20.32) 5(33.02,22.86) 5(33.02,25.4) 5(33.02,27.94) 5(33.02,30.48) 5(33.02,33.02) 5(33.02,35.56) 5(33.02,38.1) 5(33.02,40.64) 5(33.02,43.18) 5(33.02,45.72) 5(33.02,48.26) 5(33.02,50.8) 5(33.02,53.34) 5(33.02,55.88) 5(33.02,58.42) 5(33.02,60.96) 5(33.02,63.5) 5(33.02,66.04) 5(33.02,68.58) 5(33.02,71.12) 5(33.02,73.66) 5(33.02,76.2) 5(33.02,78.74) 5(33.02,81.28) 5(33.02,83.82) 5(33.02,88.9) 5(33.02,91.44) 5(35.56,-2.54) 5(35.56,0) 5(35.56,5.08) 5(35.56,7.62) 5(35.56,10.16) 5(35.56,12.7) 5(35.56,15.24) 5(35.56,17.78) 5(35.56,20.32) 5(35.56,22.86) 5(35.56,25.4) 5(35.56,27.94) 5(35.56,30.48) 5(35.56,33.02) 5(35.56,35.56) 5(35.56,38.1) 5(35.56,40.64) 5(35.56,43.18) 5(35.56,45.72) 5(35.56,48.26) 5(35.56,50.8) 5(35.56,53.34) 5(35.56,55.88) 5(35.56,58.42) 5(35.56,60.96) 5(35.56,63.5) 5(35.56,66.04) 5(35.56,68.58) 5(35.56,71.12) 5(35.56,73.66) 5(35.56,76.2) 5(35.56,78.74) 5(35.56,81.28) 5(35.56,83.82) 5(35.56,88.9) 5(35.56,91.44) 5(38.1,-2.54) 5(38.1,0) 5(38.1,5.08) 5(38.1,7.62) 5(38.1,10.16) 5(38.1,12.7) 5(38.1,15.24) 5(38.1,17.78) 5(38.1,20.32) 5(38.1,22.86) 5(38.1,25.4) 5(38.1,27.94) 5(38.1,30.48) 5(38.1,33.02) 5(38.1,35.56) 5(38.1,38.1) 5(38.1,40.64) 5(38.1,43.18) 5(38.1,45.72) 5(38.1,48.26) 5(38.1,50.8) 5(38.1,53.34) 5(38.1,55.88) 5(38.1,58.42) 5(38.1,60.96) 5(38.1,63.5) 5(38.1,66.04) 5(38.1,68.58) 5(38.1,71.12) 5(38.1,73.66) 5(38.1,76.2) 5(38.1,78.74) 5(38.1,81.28) 5(38.1,83.82) 5(38.1,88.9) 5(38.1,91.44) 5(40.64,-2.54) 5(40.64,0) 5(40.64,5.08) 5(40.64,7.62) 5(40.64,10.16) 5(40.64,12.7) 5(40.64,15.24) 5(40.64,17.78) 5(40.64,20.32) 5(40.64,22.86) 5(40.64,25.4) 5(40.64,27.94) 5(40.64,30.48) 5(40.64,33.02) 5(40.64,35.56) 5(40.64,38.1) 5(40.64,40.64) 5(40.64,43.18) 5(40.64,45.72) 5(40.64,48.26) 5(40.64,50.8) 5(40.64,53.34) 5(40.64,55.88) 5(40.64,58.42) 5(40.64,60.96) 5(40.64,63.5) 5(40.64,66.04) 5(40.64,68.58) 5(40.64,71.12) 5(40.64,73.66) 5(40.64,76.2) 5(40.64,78.74) 5(40.64,81.28) 5(40.64,83.82) 5(40.64,88.9) 5(40.64,91.44) 5(43.18,-2.54) 5(43.18,0) 5(43.18,5.08) 5(43.18,7.62) 5(43.18,10.16) 5(43.18,12.7) 5(43.18,15.24) 5(43.18,17.78) 5(43.18,20.32) 5(43.18,22.86) 5(43.18,25.4) 5(43.18,27.94) 5(43.18,30.48) 5(43.18,33.02) 5(43.18,35.56) 5(43.18,38.1) 5(43.18,40.64) 5(43.18,43.18) 5(43.18,45.72) 5(43.18,48.26) 5(43.18,50.8) 5(43.18,53.34) 5(43.18,55.88) 5(43.18,58.42) 5(43.18,60.96) 5(43.18,63.5) 5(43.18,66.04) 5(43.18,68.58) 5(43.18,71.12) 5(43.18,73.66) 5(43.18,76.2) 5(43.18,78.74) 5(43.18,81.28) 5(43.18,83.82) 5(43.18,88.9) 5(43.18,91.44) 5(45.72,-2.54) 5(45.72,0) 5(45.72,5.08) 5(45.72,7.62) 5(45.72,10.16) 5(45.72,12.7) 5(45.72,15.24) 5(45.72,17.78) 5(45.72,20.32) 5(45.72,22.86) 5(45.72,25.4) 5(45.72,27.94) 5(45.72,30.48) 5(45.72,33.02) 5(45.72,35.56) 5(45.72,38.1) 5(45.72,40.64) 5(45.72,43.18) 5(45.72,45.72) 5(45.72,48.26) 5(45.72,50.8) 5(45.72,53.34) 5(45.72,55.88) 5(45.72,58.42) 5(45.72,60.96) 5(45.72,63.5) 5(45.72,66.04) 5(45.72,68.58) 5(45.72,71.12) 5(45.72,73.66) 5(45.72,76.2) 5(45.72,78.74) 5(45.72,81.28) 5(45.72,83.82) 5(45.72,88.9) 5(45.72,91.44) 5(48.26,-2.54) 5(48.26,0) 5(48.26,5.08) 5(48.26,7.62) 5(48.26,10.16) 5(48.26,12.7) 5(48.26,15.24) 5(48.26,17.78) 5(48.26,20.32) 5(48.26,22.86) 5(48.26,25.4) 5(48.26,27.94) 5(48.26,30.48) 5(48.26,33.02) 5(48.26,35.56) 5(48.26,38.1) 5(48.26,40.64) 5(48.26,43.18) 5(48.26,45.72) 5(48.26,48.26) 5(48.26,50.8) 5(48.26,53.34) 5(48.26,55.88) 5(48.26,58.42) 5(48.26,60.96) 5(48.26,63.5) 5(48.26,66.04) 5(48.26,68.58) 5(48.26,71.12) 5(48.26,73.66) 5(48.26,76.2) 5(48.26,78.74) 5(48.26,81.28) 5(48.26,83.82) 5(48.26,88.9) 5(48.26,91.44) 5(50.8,-2.54) 5(50.8,0) 5(50.8,5.08) 5(50.8,7.62) 5(50.8,10.16) 5(50.8,12.7) 5(50.8,15.24) 5(50.8,17.78) 5(50.8,20.32) 5(50.8,22.86) 5(50.8,25.4) 5(50.8,27.94) 5(50.8,30.48) 5(50.8,33.02) 5(50.8,35.56) 5(50.8,38.1) 5(50.8,40.64) 5(50.8,43.18) 5(50.8,45.72) 5(50.8,48.26) 5(50.8,50.8) 5(50.8,53.34) 5(50.8,55.88) 5(50.8,58.42) 5(50.8,60.96) 5(50.8,63.5) 5(50.8,66.04) 5(50.8,68.58) 5(50.8,71.12) 5(50.8,73.66) 5(50.8,76.2) 5(50.8,78.74) 5(50.8,81.28) 5(50.8,83.82) 5(50.8,88.9) 5(50.8,91.44) 5(53.34,-2.54) 5(53.34,0) 5(53.34,5.08) 5(53.34,7.62) 5(53.34,10.16) 5(53.34,12.7) 5(53.34,15.24) 5(53.34,17.78) 5(53.34,20.32) 5(53.34,22.86) 5(53.34,25.4) 5(53.34,27.94) 5(53.34,30.48) 5(53.34,33.02) 5(53.34,35.56) 5(53.34,38.1) 5(53.34,40.64) 5(53.34,43.18) 5(53.34,45.72) 5(53.34,48.26) 5(53.34,50.8) 5(53.34,53.34) 5(53.34,55.88) 5(53.34,58.42) 5(53.34,60.96) 5(53.34,63.5) 5(53.34,66.04) 5(53.34,68.58) 5(53.34,71.12) 5(53.34,73.66) 5(53.34,76.2) 5(53.34,78.74) 5(53.34,81.28) 5(53.34,83.82) 5(53.34,88.9) 5(53.34,91.44) 5(55.88,-2.54) 5(55.88,0) 5(55.88,5.08) 5(55.88,7.62) 5(55.88,10.16) 5(55.88,12.7) 5(55.88,15.24) 5(55.88,17.78) 5(55.88,20.32) 5(55.88,22.86) 5(55.88,25.4) 5(55.88,27.94) 5(55.88,30.48) 5(55.88,33.02) 5(55.88,35.56) 5(55.88,38.1) 5(55.88,40.64) 5(55.88,43.18) 5(55.88,45.72) 5(55.88,48.26) 5(55.88,50.8) 5(55.88,53.34) 5(55.88,55.88) 5(55.88,58.42) 5(55.88,60.96) 5(55.88,63.5) 5(55.88,66.04) 5(55.88,68.58) 5(55.88,71.12) 5(55.88,73.66) 5(55.88,76.2) 5(55.88,78.74) 5(55.88,81.28) 5(55.88,83.82) 5(55.88,88.9) 5(55.88,91.44) 5(58.42,-2.54) 5(58.42,0) 5(58.42,5.08) 5(58.42,7.62) 5(58.42,10.16) 5(58.42,12.7) 5(58.42,15.24) 5(58.42,17.78) 5(58.42,20.32) 5(58.42,22.86) 5(58.42,25.4) 5(58.42,27.94) 5(58.42,30.48) 5(58.42,33.02) 5(58.42,35.56) 5(58.42,38.1) 5(58.42,40.64) 5(58.42,43.18) 5(58.42,45.72) 5(58.42,48.26) 5(58.42,50.8) 5(58.42,53.34) 5(58.42,55.88) 5(58.42,58.42) 5(58.42,60.96) 5(58.42,63.5) 5(58.42,66.04) 5(58.42,68.58) 5(58.42,71.12) 5(58.42,73.66) 5(58.42,76.2) 5(58.42,78.74) 5(58.42,81.28) 5(58.42,83.82) 5(58.42,88.9) 5(58.42,91.44) 5(60.96,-2.54) 5(60.96,0) 5(60.96,5.08) 5(60.96,7.62) 5(60.96,10.16) 5(60.96,12.7) 5(60.96,15.24) 5(60.96,17.78) 5(60.96,20.32) 5(60.96,22.86) 5(60.96,25.4) 5(60.96,27.94) 5(60.96,30.48) 5(60.96,33.02) 5(60.96,35.56) 5(60.96,38.1) 5(60.96,40.64) 5(60.96,43.18) 5(60.96,45.72) 5(60.96,48.26) 5(60.96,50.8) 5(60.96,53.34) 5(60.96,55.88) 5(60.96,58.42) 5(60.96,60.96) 5(60.96,63.5) 5(60.96,66.04) 5(60.96,68.58) 5(60.96,71.12) 5(60.96,73.66) 5(60.96,76.2) 5(60.96,78.74) 5(60.96,81.28) 5(60.96,83.82) 5(60.96,88.9) 5(60.96,91.44) 5(63.5,-2.54) 5(63.5,0) 5(63.5,5.08) 5(63.5,7.62) 5(63.5,10.16) 5(63.5,12.7) 5(63.5,15.24) 5(63.5,17.78) 5(63.5,20.32) 5(63.5,22.86) 5(63.5,25.4) 5(63.5,27.94) 5(63.5,30.48) 5(63.5,33.02) 5(63.5,35.56) 5(63.5,38.1) 5(63.5,40.64) 5(63.5,43.18) 5(63.5,45.72) 5(63.5,48.26) 5(63.5,50.8) 5(63.5,53.34) 5(63.5,55.88) 5(63.5,58.42) 5(63.5,60.96) 5(63.5,63.5) 5(63.5,66.04) 5(63.5,68.58) 5(63.5,71.12) 5(63.5,73.66) 5(63.5,76.2) 5(63.5,78.74) 5(63.5,81.28) 5(63.5,83.82) 5(63.5,88.9) 5(63.5,91.44) 5(66.04,-2.54) 5(66.04,0) 5(66.04,5.08) 5(66.04,7.62) 5(66.04,10.16) 5(66.04,12.7) 5(66.04,15.24) 5(66.04,17.78) 5(66.04,20.32) 5(66.04,22.86) 5(66.04,25.4) 5(66.04,27.94) 5(66.04,30.48) 5(66.04,33.02) 5(66.04,35.56) 5(66.04,38.1) 5(66.04,40.64) 5(66.04,43.18) 5(66.04,45.72) 5(66.04,48.26) 5(66.04,50.8) 5(66.04,53.34) 5(66.04,55.88) 5(66.04,58.42) 5(66.04,60.96) 5(66.04,63.5) 5(66.04,66.04) 5(66.04,68.58) 5(66.04,71.12) 5(66.04,73.66) 5(66.04,76.2) 5(66.04,78.74) 5(66.04,81.28) 5(66.04,83.82) 5(66.04,88.9) 5(66.04,91.44) 5(68.58,-2.54) 5(68.58,0) 5(68.58,5.08) 5(68.58,7.62) 5(68.58,10.16) 5(68.58,12.7) 5(68.58,15.24) 5(68.58,17.78) 5(68.58,20.32) 5(68.58,22.86) 5(68.58,25.4) 5(68.58,27.94) 5(68.58,30.48) 5(68.58,33.02) 5(68.58,35.56) 5(68.58,38.1) 5(68.58,40.64) 5(68.58,43.18) 5(68.58,45.72) 5(68.58,48.26) 5(68.58,50.8) 5(68.58,53.34) 5(68.58,55.88) 5(68.58,58.42) 5(68.58,60.96) 5(68.58,63.5) 5(68.58,66.04) 5(68.58,68.58) 5(68.58,71.12) 5(68.58,73.66) 5(68.58,76.2) 5(68.58,78.74) 5(68.58,81.28) 5(68.58,83.82) 5(68.58,88.9) 5(68.58,91.44) 5(71.12,-2.54) 5(71.12,0) 5(71.12,5.08) 5(71.12,7.62) 5(71.12,10.16) 5(71.12,12.7) 5(71.12,15.24) 5(71.12,17.78) 5(71.12,20.32) 5(71.12,22.86) 5(71.12,25.4) 5(71.12,27.94) 5(71.12,30.48) 5(71.12,33.02) 5(71.12,35.56) 5(71.12,38.1) 5(71.12,40.64) 5(71.12,43.18) 5(71.12,45.72) 5(71.12,48.26) 5(71.12,50.8) 5(71.12,53.34) 5(71.12,55.88) 5(71.12,58.42) 5(71.12,60.96) 5(71.12,63.5) 5(71.12,66.04) 5(71.12,68.58) 5(71.12,71.12) 5(71.12,73.66) 5(71.12,76.2) 5(71.12,78.74) 5(71.12,81.28) 5(71.12,83.82) 5(71.12,88.9) 5(71.12,91.44) 5(73.66,-2.54) 5(73.66,0) 5(73.66,5.08) 5(73.66,7.62) 5(73.66,10.16) 5(73.66,12.7) 5(73.66,15.24) 5(73.66,17.78) 5(73.66,20.32) 5(73.66,22.86) 5(73.66,25.4) 5(73.66,27.94) 5(73.66,30.48) 5(73.66,33.02) 5(73.66,35.56) 5(73.66,38.1) 5(73.66,40.64) 5(73.66,43.18) 5(73.66,45.72) 5(73.66,48.26) 5(73.66,50.8) 5(73.66,53.34) 5(73.66,55.88) 5(73.66,58.42) 5(73.66,60.96) 5(73.66,63.5) 5(73.66,66.04) 5(73.66,68.58) 5(73.66,71.12) 5(73.66,73.66) 5(73.66,76.2) 5(73.66,78.74) 5(73.66,81.28) 5(73.66,83.82) 5(73.66,88.9) 5(73.66,91.44) 5(76.2,-2.54) 5(76.2,0) 5(76.2,5.08) 5(76.2,7.62) 5(76.2,10.16) 5(76.2,12.7) 5(76.2,15.24) 5(76.2,17.78) 5(76.2,20.32) 5(76.2,22.86) 5(76.2,25.4) 5(76.2,27.94) 5(76.2,30.48) 5(76.2,33.02) 5(76.2,35.56) 5(76.2,38.1) 5(76.2,40.64) 5(76.2,43.18) 5(76.2,45.72) 5(76.2,48.26) 5(76.2,50.8) 5(76.2,53.34) 5(76.2,55.88) 5(76.2,58.42) 5(76.2,60.96) 5(76.2,63.5) 5(76.2,66.04) 5(76.2,68.58) 5(76.2,71.12) 5(76.2,73.66) 5(76.2,76.2) 5(76.2,78.74) 5(76.2,81.28) 5(76.2,83.82) 5(76.2,88.9) 5(76.2,91.44) 5(78.74,-2.54) 5(78.74,0) 5(78.74,5.08) 5(78.74,7.62) 5(78.74,10.16) 5(78.74,12.7) 5(78.74,15.24) 5(78.74,17.78) 5(78.74,20.32) 5(78.74,22.86) 5(78.74,25.4) 5(78.74,27.94) 5(78.74,30.48) 5(78.74,33.02) 5(78.74,35.56) 5(78.74,38.1) 5(78.74,40.64) 5(78.74,43.18) 5(78.74,45.72) 5(78.74,48.26) 5(78.74,50.8) 5(78.74,53.34) 5(78.74,55.88) 5(78.74,58.42) 5(78.74,60.96) 5(78.74,63.5) 5(78.74,66.04) 5(78.74,68.58) 5(78.74,71.12) 5(78.74,73.66) 5(78.74,76.2) 5(78.74,78.74) 5(78.74,81.28) 5(78.74,83.82) 5(78.74,88.9) 5(78.74,91.44) 5(81.28,-2.54) 5(81.28,0) 5(81.28,5.08) 5(81.28,7.62) 5(81.28,10.16) 5(81.28,12.7) 5(81.28,15.24) 5(81.28,17.78) 5(81.28,20.32) 5(81.28,22.86) 5(81.28,25.4) 5(81.28,27.94) 5(81.28,30.48) 5(81.28,33.02) 5(81.28,35.56) 5(81.28,38.1) 5(81.28,40.64) 5(81.28,43.18) 5(81.28,45.72) 5(81.28,48.26) 5(81.28,50.8) 5(81.28,53.34) 5(81.28,55.88) 5(81.28,58.42) 5(81.28,60.96) 5(81.28,63.5) 5(81.28,66.04) 5(81.28,68.58) 5(81.28,71.12) 5(81.28,73.66) 5(81.28,76.2) 5(81.28,78.74) 5(81.28,81.28) 5(81.28,83.82) 5(81.28,88.9) 5(81.28,91.44) 5(83.82,-2.54) 5(83.82,0) 5(83.82,5.08) 5(83.82,7.62) 5(83.82,10.16) 5(83.82,12.7) 5(83.82,15.24) 5(83.82,17.78) 5(83.82,20.32) 5(83.82,22.86) 5(83.82,25.4) 5(83.82,27.94) 5(83.82,30.48) 5(83.82,33.02) 5(83.82,35.56) 5(83.82,38.1) 5(83.82,40.64) 5(83.82,43.18) 5(83.82,45.72) 5(83.82,48.26) 5(83.82,50.8) 5(83.82,53.34) 5(83.82,55.88) 5(83.82,58.42) 5(83.82,60.96) 5(83.82,63.5) 5(83.82,66.04) 5(83.82,68.58) 5(83.82,71.12) 5(83.82,73.66) 5(83.82,76.2) 5(83.82,78.74) 5(83.82,81.28) 5(83.82,83.82) 5(83.82,88.9) 5(83.82,91.44) 5(86.36,5.08) 5(86.36,7.62) 5(86.36,10.16) 5(86.36,12.7) 5(86.36,15.24) 5(86.36,17.78) 5(86.36,20.32) 5(86.36,22.86) 5(86.36,25.4) 5(86.36,27.94) 5(86.36,30.48) 5(86.36,33.02) 5(86.36,35.56) 5(86.36,38.1) 5(86.36,40.64) 5(86.36,43.18) 5(86.36,45.72) 5(86.36,48.26) 5(86.36,50.8) 5(86.36,53.34) 5(86.36,55.88) 5(86.36,58.42) 5(86.36,60.96) 5(86.36,63.5) 5(86.36,66.04) 5(86.36,68.58) 5(86.36,71.12) 5(86.36,73.66) 5(86.36,76.2) 5(86.36,78.74) 5(86.36,81.28) 5(86.36,83.82) 5(88.9,5.08) 5(88.9,7.62) 5(88.9,10.16) 5(88.9,12.7) 5(88.9,15.24) 5(88.9,17.78) 5(88.9,20.32) 5(88.9,22.86) 5(88.9,25.4) 5(88.9,27.94) 5(88.9,30.48) 5(88.9,33.02) 5(88.9,35.56) 5(88.9,38.1) 5(88.9,40.64) 5(88.9,43.18) 5(88.9,45.72) 5(88.9,48.26) 5(88.9,50.8) 5(88.9,53.34) 5(88.9,55.88) 5(88.9,58.42) 5(88.9,60.96) 5(88.9,63.5) 5(88.9,66.04) 5(88.9,68.58) 5(88.9,71.12) 5(88.9,73.66) 5(88.9,76.2) 5(88.9,78.74) 5(88.9,81.28) 5(88.9,83.82) 5(91.44,5.08) 5(91.44,7.62) 5(91.44,10.16) 5(91.44,12.7) 5(91.44,15.24) 5(91.44,17.78) 5(91.44,20.32) 5(91.44,22.86) 5(91.44,25.4) 5(91.44,27.94) 5(91.44,30.48) 5(91.44,33.02) 5(91.44,35.56) 5(91.44,38.1) 5(91.44,40.64) 5(91.44,43.18) 5(91.44,45.72) 5(91.44,48.26) 5(91.44,50.8) 5(91.44,53.34) 5(91.44,55.88) 5(91.44,58.42) 5(91.44,60.96) 5(91.44,63.5) 5(91.44,66.04) 5(91.44,68.58) 5(91.44,71.12) 5(91.44,73.66) 5(91.44,76.2) 5(91.44,78.74) 5(91.44,81.28) 5(91.44,83.82)
Top Layer:
  lines w1: 5.08,-2.54 83.82,-2.54 ; 5.08,0 83.82,0 ; 5.08,88.9 83.82,88.9 ; 5.08,91.44 83.82,91.44
Bottom Layer:
  lines w1: 5.08,-2.54 83.82,-2.54 ; 5.08,0 83.82,0 ; 5.08,88.9 83.82,88.9 ; 5.08,91.44 83.82,91.44
Keep-Out Layer:
  lines w0.254: -5.08,-5.08 94.92,-5.08 94.92,94.92 -5.08,94.92 -5.08,-5.08
Mechanical 15:
  lines w0.003: 44.92,44.92 44.92,44.92

## QFP50P1200X1200X160-64N [mm]
pads (64):
  rect 1.5x0.3 smd: 1(-5.75,3.75) 2(-5.75,3.25) 3(-5.75,2.75) 4(-5.75,2.25) 5(-5.75,1.75) 6(-5.75,1.25) 7(-5.75,0.75) 8(-5.75,0.25) 9(-5.75,-0.25) 10(-5.75,-0.75) 11(-5.75,-1.25) 12(-5.75,-1.75) 13(-5.75,-2.25) 14(-5.75,-2.75) 15(-5.75,-3.25) 16(-5.75,-3.75) 33(5.75,-3.75) 34(5.75,-3.25) 35(5.75,-2.75) 36(5.75,-2.25) 37(5.75,-1.75) 38(5.75,-1.25) 39(5.75,-0.75) 40(5.75,-0.25) 41(5.75,0.25) 42(5.75,0.75) 43(5.75,1.25) 44(5.75,1.75) 45(5.75,2.25) 46(5.75,2.75) 47(5.75,3.25) 48(5.75,3.75)
  rect 0.3x1.5 smd: 17(-3.75,-5.75) 18(-3.25,-5.75) 19(-2.75,-5.75) 20(-2.25,-5.75) 21(-1.75,-5.75) 22(-1.25,-5.75) 23(-0.75,-5.75) 24(-0.25,-5.75) 25(0.25,-5.75) 26(0.75,-5.75) 27(1.25,-5.75) 28(1.75,-5.75) 29(2.25,-5.75) 30(2.75,-5.75) 31(3.25,-5.75) 32(3.75,-5.75) 49(3.75,5.75) 50(3.25,5.75) 51(2.75,5.75) 52(2.25,5.75) 53(1.75,5.75) 54(1.25,5.75) 55(0.75,5.75) 56(0.25,5.75) 57(-0.25,5.75) 58(-0.75,5.75) 59(-1.25,5.75) 60(-1.75,5.75) 61(-2.25,5.75) 62(-2.75,5.75) 63(-3.25,5.75) 64(-3.75,5.75)
Top Overlay:
  circle w0.25: c-6.25,4.5 r0.125
  lines w0.2: -4.65,-4.65 -4.65,4.65 4.65,4.65 4.65,-4.65 -4.65,-4.65
Mechanical 13:
  lines w0.1: -5,4.5 -4.5,5 ; -5,-5 -5,5 5,5 5,-5 -5,-5
Mechanical 15:
  lines w0.05: -6.75,-6.75 -6.75,6.75 6.75,6.75 6.75,-6.75 -6.75,-6.75
3D body "CS42448-CQZ.stp": height 1.6, standoff 0, extent -6,-6 6,6